# Altium schematic symbol library F31W-1A7H1-11016.SchLib: 2 symbols
Pins are listed as number, name and electrical type; pins without a type are passive.

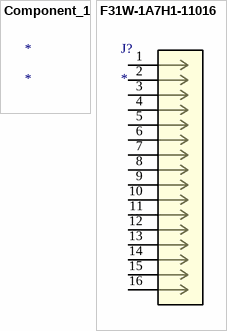
[diagram p0: symbols Component_1 to F31W-1A7H1-11016]

## Component_1
designator *

## F31W-1A7H1-11016
designator J?
No Description Available; Mfr_Name: Amphenol ICC; RefDes: RefDes; Type: Type
footprint CONN_F31W-1A7H1-11016_AMP
pins: 1, 2, 3, 4, 5, 6, 7, 8, 9, 10, 11, 12, 13, 14, 15, 16